# EAGLE library part TI-ISO7762 (library EagleLibrary)
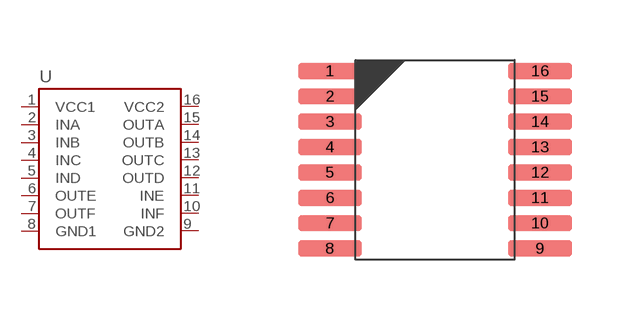
[diagram p34: symbol with the pads of TI-ISO7762FDBQR; footprint TI-ISO7762FDBQR]

Designator prefix U

## TI-ISO7762 (MFG: Texas Instruments)  [TI-ISO7762FDBQR]
1  VCC1
2  INA
3  INB
4  INC
5  IND
6  OUTE
7  OUTF
8  GND1
9  GND2
10  INF
11  INE
12  OUTD
13  OUTC
14  OUTB
15  OUTA
16  VCC2

## Footprint TI-ISO7762FDBQR (pad centres in mm)
16-SOP, 0.64 mm pitch, 6.00 mm span, 4.91 X 3.90 X 1.75 mm body 16-pin SOP package with 0.64 mm pitch, 6.00 mm span with body size 4.91 X 3.90 X 1.75 mm
smd 1.6 x 0.41: 1 -2.629,2.223; 2 -2.629,1.587; 3 -2.629,0.953; 4 -2.629,0.318; 5 -2.629,-0.318; 6 -2.629,-0.953; 7 -2.629,-1.587; 8 -2.629,-2.223; 9 2.629,-2.223; 10 2.629,-1.587; 11 2.629,-0.953; 12 2.629,-0.318; 13 2.629,0.318; 14 2.629,0.953; 15 2.629,1.587; 16 2.629,2.223